# EAGLE library part LTC294*? (library Analog Devices)
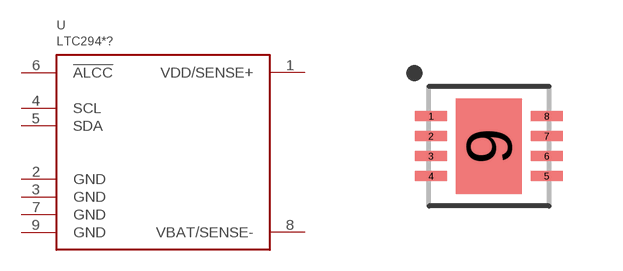
[diagram p3: symbol with the pads of DFN8; footprint DFN8]

Designator prefix U

## LTC2943, LTC2943-1, LTC2944  [DFN8]
1  VDD/SENSE+
2  GND
3  GND
4  SCL
5  SDA
6  !ALCC
7  GND
8  VBAT/SENSE-
9  GND

## Footprint DFN8 (pad centres in mm)
smd 0.8 x 0.25: 1 -1.45,0.75; 2 -1.45,0.25; 3 -1.45,-0.25; 4 -1.45,-0.75; 5 1.45,-0.75; 6 1.45,-0.25; 7 1.45,0.25; 8 1.45,0.75
smd 1.65 x 2.38: 9 0,0